# Altium footprint library 1N5927(ON).PcbLib: 1 footprints
Each footprint in its own frame and in the unit in brackets; x right, y up, seen from the top. Pads: shape width x height; smd on the part's side, far side on the other; paste and mask are expansions set on the pad; w line width, h text height; cw(c..) or ccw(c..) is an arc to the next point about the centre after c.
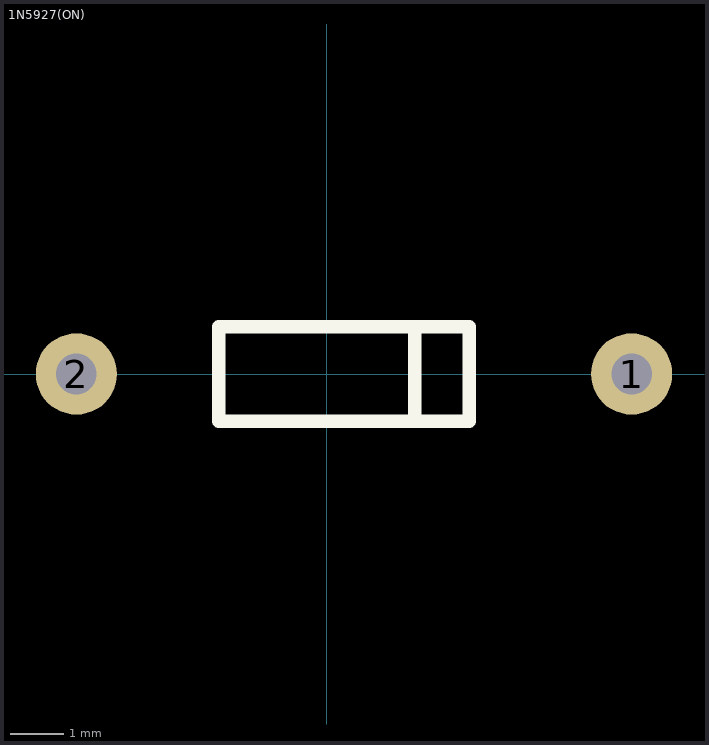
[diagram p0: the footprint, top view; thin cyan lines are the x and y axes]

## 1N5927(ON) [mil] "Zener Diode"
pads (2):
  round 60 hole 30: 1(225,0) 2(-185,0)
Top Overlay:
  lines w10: -80,-35 105,-35 105,35 -80,35 -80,-35 ; 65,-30 65,35 65,-30
3D body "1N5927B(ON).STEP": height 141.97, standoff -106.85, extent -198.22,-51.97 240,51.97